# EAGLE library part CP2102/9 (library ZHAW_BA)
Schnittstellen - Controller, USB-TO-UART BRIDGE 28VQFN DigiKey: Pt.Nr: 336-1160-1-ND https://www.digikey.ch/products/de/integrated-circuits-ics/interface-controllers/753?k=CP2102&k=&pkeyword=CP2102&sv=0&pv7=2&sf=0&FV=-8%7C753&quantity=&ColumnSort=0&page=1&stock=1&pageSize=25
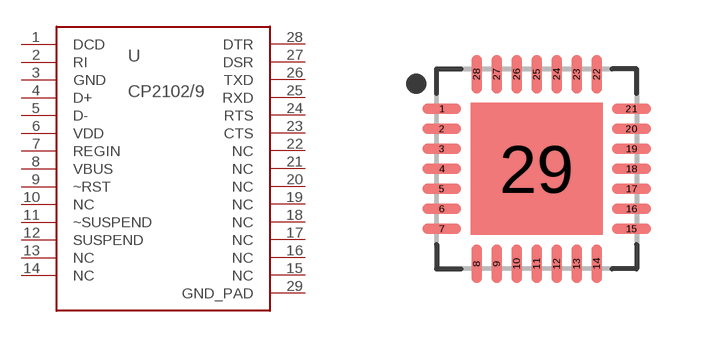
[diagram p5: symbol with the pads of QFN-28; footprint QFN-28]

Designator prefix U

## CP2102/9  [QFN-28]
1  DCD
2  RI
3  GND
4  D+
5  D-
6  VDD
7  REGIN
8  VBUS
9  ~RST
10  NC
11  ~SUSPEND
12  SUSPEND
13  NC
14  NC
15  NC
16  NC
17  NC
18  NC
19  NC
20  NC
21  NC
22  NC
23  CTS
24  RTS
25  RXD
26  TXD
27  DSR
28  DTR
29  GND_PAD

## Footprint QFN-28 (pad centres in mm)
28-QFN, 0.50 mm pitch, 5.00 X 5.00 X 1.00 mm body, 3.30 X 3.30 mm thermal pad 28-pin QFN package with 0.50 mm pitch with body size 5.00 X 5.00 X 1.00 mm and thermal pad size 3.30 X 3.30 mm
smd 0.969 x 0.264: 1 -2.371,1.5; 2 -2.371,1; 3 -2.371,0.5; 4 -2.371,0; 5 -2.371,-0.5; 6 -2.371,-1; 7 -2.371,-1.5; 15 2.371,-1.5; 16 2.371,-1; 17 2.371,-0.5; 18 2.371,0; 19 2.371,0.5; 20 2.371,1; 21 2.371,1.5
smd 0.264 x 0.969: 8 -1.5,-2.371; 9 -1,-2.371; 10 -0.5,-2.371; 11 0,-2.371; 12 0.5,-2.371; 13 1,-2.371; 14 1.5,-2.371; 22 1.5,2.371; 23 1,2.371; 24 0.5,2.371; 25 0,2.371; 26 -0.5,2.371; 27 -1,2.371; 28 -1.5,2.371
smd 3.3 x 3.3: 29 0,0